# Altium footprint library RPE_PCB_Library.PcbLib: 28 footprints (part 2 of 2)
Each footprint in its own frame and in the unit in brackets; x right, y up, seen from the top. Pads: shape width x height; smd on the part's side, far side on the other; paste and mask are expansions set on the pad; w line width, h text height; cw(c..) or ccw(c..) is an arc to the next point about the centre after c.
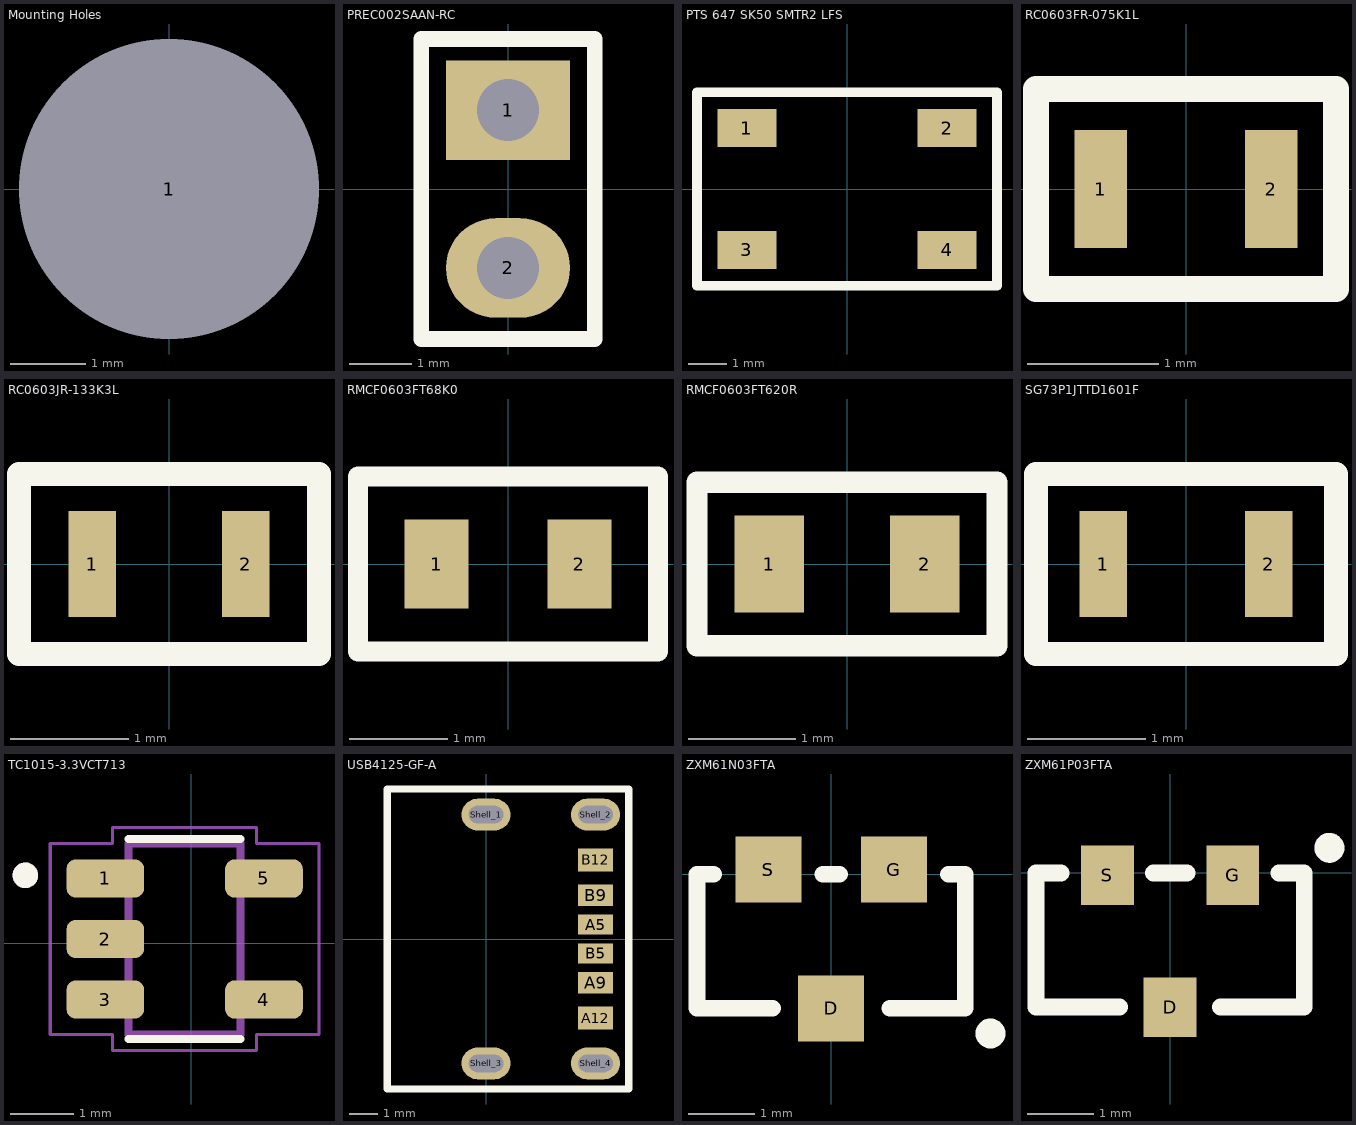
[diagram p1: the footprints below, top view; thin cyan lines are the x and y axes]

## Mounting Holes [mil]
pads (1):
  round 60 hole 157.48 unplated: 1(0,0)

## PREC002SAAN-RC [mm] "CONN HEADER VERT 2POS 2.54MM"
pads (2):
  rect 2x1.6 hole 1: 1(0,1.27)
  oval 2x1.6 hole 1: 2(0,-1.27)
Top Overlay:
  lines w0.254: -1.397,-2.413 -1.397,2.413 1.397,2.413 1.397,-2.413 -1.397,-2.413

## PTS 647 SK50 SMTR2 LFS [mm] "SWITCH TACTILE SPST-NO 0.05A 12V"
height 1.1
pads (4):
  rect 1.55x1 smd: 1(-2.625,1.6) 2(2.625,1.6) 3(-2.625,-1.6) 4(2.625,-1.6)
Top Overlay:
  lines w0.254: -3.937,-2.54 -3.937,2.54 3.937,2.54 3.937,-2.54 -3.937,-2.54

## RC0603FR-075K1L [mm] "RES 5.1K OHM 1% 1/10W 0603"
height 0.55
pads (2):
  rect 0.4x0.9 smd: 1(-0.65,0) 2(0.65,0)
Top Overlay:
  lines w0.2: -1.143,-0.762 1.143,-0.762 1.143,0.762 -1.143,0.762 -1.143,0.233 -1.143,-0.762

## RC0603JR-133K3L [mm] "RES 3.3K OHM 5% 1/10W 0603"
height 0.55
pads (2):
  rect 0.4x0.9 smd: 1(-0.65,0) 2(0.65,0)
Top Overlay:
  lines w0.2: -1.27,-0.762 -1.27,0.762 1.27,0.762 1.27,-0.762 -1.27,-0.762

## RMCF0603FT68K0 [mm] "68k ohm Chip resistor"
height 0.55
pads (2):
  rect 0.65x0.9 smd: 1(-0.725,0) 2(0.725,0)
Top Overlay:
  lines w0.2: -1.524,-0.889 1.524,-0.889 1.524,0.889 -1.524,0.889 -1.524,0.456 -1.524,-0.889

## RMCF0603FT620R [mm] "RES 620 OHM 1% 1/10W 0603"
height 0.55
pads (2):
  rect 0.65x0.9 smd: 1(-0.725,0) 2(0.725,0)
Top Overlay:
  lines w0.2: -1.397,-0.762 -1.397,0.762 1.397,0.762 1.397,-0.762 -1.397,-0.762

## SG73P1JTTD1601F [mm] "RES 1.6K OHM 1% 1/3W 0603"
height 0.55
pads (2):
  rect 0.4x0.9 smd: 1(-0.7,0) 2(0.7,0)
Top Overlay:
  lines w0.2: -1.27,-0.762 1.27,-0.762 1.27,0.762 -1.27,0.762 -1.27,0.156 -1.27,-0.762

## TC1015-3.3VCT713 [mm] "IC REG LINEAR 3.3V 100MA SOT23-5"
height 1.45
pads (5):
  rrect50% 1.22x0.6 smd: 1(-1.347,1.016) 2(-1.347,0.066) 3(-1.347,-0.884) 4(1.143,-0.884) 5(1.143,1.016)
Top Overlay:
  circle w0.2: c-2.602,1.066 r0.1
  lines w0.127: -0.982,-1.504 0.778,-1.504 ; -0.982,1.636 0.778,1.636
Mechanical 13:
  circle w0.2: c-2.602,1.066 r0.1
  lines w0.127: -0.982,-1.434 -0.982,1.566 0.778,1.566 0.778,-1.434 -0.982,-1.434
Mechanical 15:
  lines w0.05: -2.212,-1.434 -1.232,-1.434 -1.232,-1.684 1.028,-1.684 1.028,-1.434 2.008,-1.434 2.008,1.566 1.028,1.566 1.028,1.816 -1.232,1.816 -1.232,1.566 -2.212,1.566 -2.212,-1.434

## USB4125-GF-A [mm] "CONN RCPT TYPE C 6P SMD RA"
height 2.6
pads (10):
  rect 1.2x0.7 smd mask+0: A5(3.8,0.5) B5(3.8,-0.5)
  rect 1.2x0.76 smd mask+0: A9(3.8,-1.52) B9(3.8,1.52)
  rect 1.2x0.8 smd mask+0: A12(3.8,-2.75) B12(3.8,2.75)
  oval 1.7x1.1 hole 0.6 slot 1.2 at 0 deg: Shell_1(0,4.32) Shell_2(3.8,4.32) Shell_3(0,-4.32) Shell_4(3.8,-4.32)
Top Overlay:
  lines w0.254: -3.429,-5.207 4.953,-5.207 4.953,5.207 -3.429,5.207 -3.429,-5.207

## ZXM61N03FTA [mm] "MOSFET N-CH 30V 1.4A SOT23-3"
height 1.1
pads (3):
  rect 1x1 smd: D(0,-2.032) G(0.95,0.068) S(-0.95,0.068)
Top Overlay:
  circle w0.254: c2.413,-2.413 r0.1
  lines w0.254: -1.778,0 -2.032,0 -2.032,-2.032 -0.889,-2.032 ; -0.127,0 0.127,0 ; 0.889,-2.032 2.032,-2.032 2.032,0 1.778,0

## ZXM61P03FTA [mm] "MOSFET P-CH 30V 1.1A SOT23-3"
height 1.1
pads (3):
  rect 0.8x0.9 smd: D(0,-2.032) G(0.95,-0.032) S(-0.95,-0.032)
Top Overlay:
  circle w0.254: c2.413,0.381 r0.1
  lines w0.254: -1.651,0 -2.032,0 -2.032,-2.032 -0.762,-2.032 ; -0.254,0 0.254,0 ; 0.762,-2.032 2.032,-2.032 2.032,0 1.651,0